# Altium schematic symbol library Gate Drivers.SchLib: 1 symbol
Pins are listed as number, name and electrical type; pins without a type are passive.

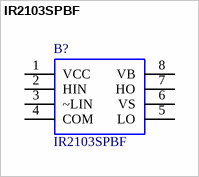
[diagram p0: symbol IR2103SPBF]

## IR2103SPBF
designator B?
International Rectifier IR2103SPBF, Dual MOSFET Power Driver, 360mA Half Bridge, 10  20 V, Non-Inverting, 8-Pin; Manufacturer_Name: International Rectifier; Manufacturer_Part_Number: IR2103SPBF; RS Part Number: 8655636; RS Price/Stock: http://uk.rs-online.com/web/p/products/8655636; Mouser Part Number: 8655636; Mouser Price/Stock: http://uk.rs-online.com/web/p/products/8655636; Datasheet Link: *
footprint SOIC127P600X175-8N
pins: 1 VCC, 2 HIN, 3 ~LIN, 4 COM, 5 LO, 6 VS, 7 HO, 8 VB